# EAGLE library part ADP3334AR (library Radicon)
ADP3334 High Accuracy, Low IQ, anyCAP® Adjustable Low Dropout Regulator
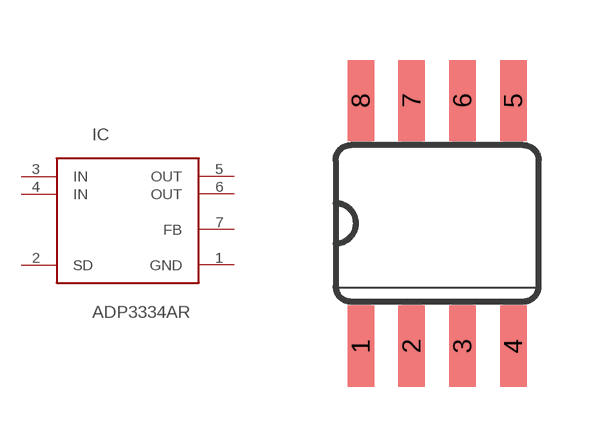
[diagram p33: symbol with the pads of SO08; footprint SO08]

Designator prefix IC

## ADP3334AR  [SO08]
1  GND
2  SD
3  IN
4  IN
5  OUT
6  OUT
7  FB

## Footprint SO08 (pad centres in mm)
Small Outline package 8 150 mil
smd 0.66 x 2.032: 1 -1.905,-3.073; 2 -0.635,-3.073; 3 0.635,-3.073; 4 1.905,-3.073; 5 1.905,3.073; 6 0.635,3.073; 7 -0.635,3.073; 8 -1.905,3.073